# Altium integrated library ON Semi Power Mgt Voltage Detector.IntLib: 40 symbols
Pins are listed as number, name and electrical type; pins without a type are passive.

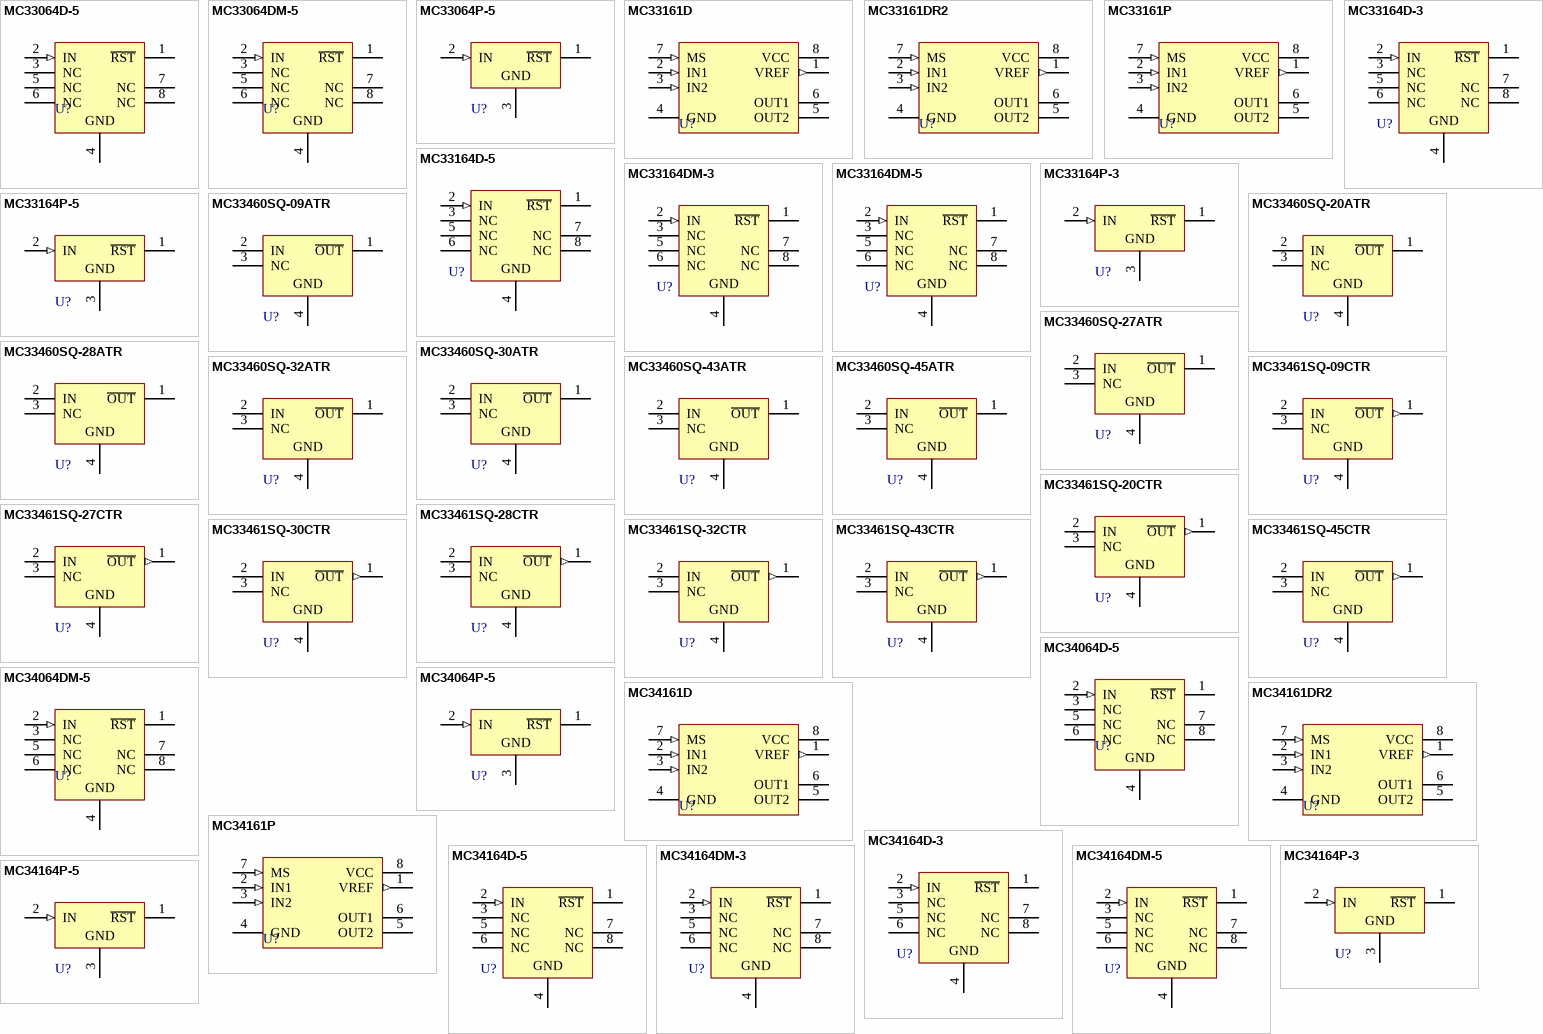
[diagram p0: symbols MC33064D-5 to MC34164P-5]

## MC33064D-5
designator U?
Undervoltage Sensing Circuit; Published: 15-Apr-2002; LatestRevisionDate: 13-Apr-2006; LatestRevisionNote: IPC-7351 Footprint Added.; DatasheetVersion: 1996; PackageVersion: 1998; PackageReference: 751-05; Publisher: Altium Limited; PackageDescription: 8-Pin Small Outline Integrated Circuit 1.27 mm Pitch; Code_JEDEC: MS-012-AA; Code_IPC: SOIC127P600-8; ComponentLink1Description: Manufacturer Link; ComponentLink1URL: http://www.onsemi.com/site/products/taxonomy/0,4438,503,00.html; ComponentLink2Description: Datasheet; ComponentLink2URL: http://www.onsemi.com/pub/Collateral/MC34064-D.PDF
footprint 751-05_N (SOIC, 8-Leads, Body 4.9x3.9mm, Pitch 1.27mm, IPC Medium Density)
footprint 751-05_L (SOIC, 8-Leads, Body 4.9x3.9mm, Pitch 1.27mm, IPC High Density)
footprint 751-05_M (SOIC, 8-Leads, Body 4.9x3.9mm, Pitch 1.27mm, IPC Low Density)
pins: 1 ~{RST} (oc), 2 IN (in), 3 NC, 4 GND (power), 5 NC, 6 NC, 7 NC, 8 NC

## MC33064DM-5
designator U?
Undervoltage Sensing Circuit; Published: 15-Apr-2002; DatasheetVersion: 1996; PackageVersion: Oct-1999; PackageReference: 846A-02; Publisher: Altium Limited; PackageDescription: Shrink Small Outline; 8 Leads; Body Width 3 mm; Pitch 0.65 mm; ComponentLink1Description: Manufacturer Link; ComponentLink1URL: http://www.onsemi.com/site/products/taxonomy/0,4438,503,00.html; ComponentLink2Description: Datasheet; ComponentLink2URL: http://www.onsemi.com/pub/Collateral/MC34064-D.PDF
footprint 846A-02 (Shrink Small Outline; 8 Leads; Body Width 3 mm; Pitch 0.65 mm)
pins: 1 ~{RST} (oc), 2 IN (in), 3 NC, 4 GND (power), 5 NC, 6 NC, 7 NC, 8 NC

## MC33064P-5
designator U?
Undervoltage Sensing Circuit; Published: 15-Apr-2002; DatasheetVersion: 1996; PackageVersion: 1996; PackageReference: 29-04; Publisher: Altium Limited; PackageDescription: TO, Flat Index; 3 In-Line, Axial Leads; Body Dia. 4.8mm; Leads 0.48 x 0.51 mm (max); ComponentLink1Description: Manufacturer Link; ComponentLink1URL: http://www.onsemi.com/site/products/taxonomy/0,4438,503,00.html; ComponentLink2Description: Datasheet; ComponentLink2URL: http://www.onsemi.com/pub/Collateral/MC34064-D.PDF
footprint 29-04 (TO, Flat Index; 3 In-Line, Axial Leads; Body Dia. 4.8mm; Leads 0.48 x 0.51 mm (max))
pins: 1 ~{RST} (oc), 2 IN (in), 3 GND (power)

## MC33161D
designator U?
Universal Voltage Monitor; Published: 15-Apr-2002; LatestRevisionDate: 13-Apr-2006; LatestRevisionNote: IPC-7351 Footprint Added.; DatasheetVersion: Apr-2000; PackageVersion: 1998; PackageReference: 751-05; Publisher: Altium Limited; PackageDescription: 8-Pin Small Outline Integrated Circuit 1.27 mm Pitch; Code_JEDEC: MS-012-AA; Code_IPC: SOIC127P600-8; ComponentLink1Description: Manufacturer Link; ComponentLink1URL: http://www.onsemi.com/site/products/taxonomy/0,4438,503,00.html; ComponentLink2Description: Datasheet; ComponentLink2URL: http://www.onsemi.com/pub/Collateral/MC34161-D.PDF
footprint 751-05_N (SOIC, 8-Leads, Body 4.9x3.9mm, Pitch 1.27mm, IPC Medium Density)
footprint 751-05_L (SOIC, 8-Leads, Body 4.9x3.9mm, Pitch 1.27mm, IPC High Density)
footprint 751-05_M (SOIC, 8-Leads, Body 4.9x3.9mm, Pitch 1.27mm, IPC Low Density)
pins: 1 VREF (out), 2 IN1 (in), 3 IN2 (in), 4 GND (power), 5 OUT2 (oc), 6 OUT1 (oc), 7 MS (in), 8 VCC (power)

## MC33161DR2
designator U?
Universal Voltage Monitor; Published: 15-Apr-2002; LatestRevisionDate: 13-Apr-2006; LatestRevisionNote: IPC-7351 Footprint Added.; DatasheetVersion: Apr-2000; PackageVersion: 1998; PackageReference: 751-05; Publisher: Altium Limited; PackageDescription: 8-Pin Small Outline Integrated Circuit 1.27 mm Pitch; Code_JEDEC: MS-012-AA; Code_IPC: SOIC127P600-8; ComponentLink1Description: Manufacturer Link; ComponentLink1URL: http://www.onsemi.com/site/products/taxonomy/0,4438,503,00.html; ComponentLink2Description: Datasheet; ComponentLink2URL: http://www.onsemi.com/pub/Collateral/MC34161-D.PDF
footprint 751-05_N (SOIC, 8-Leads, Body 4.9x3.9mm, Pitch 1.27mm, IPC Medium Density)
footprint 751-05_L (SOIC, 8-Leads, Body 4.9x3.9mm, Pitch 1.27mm, IPC High Density)
footprint 751-05_M (SOIC, 8-Leads, Body 4.9x3.9mm, Pitch 1.27mm, IPC Low Density)
pins: 1 VREF (out), 2 IN1 (in), 3 IN2 (in), 4 GND (power), 5 OUT2 (oc), 6 OUT1 (oc), 7 MS (in), 8 VCC (power)

## MC33161P
designator U?
Universal Voltage Monitor; Published: 15-Apr-2002; DatasheetVersion: Apr-2000; PackageVersion: 1998; PackageReference: 626-05; Publisher: Altium Limited; PackageDescription: DIP; 8 Leads; Row Spacing 7.62 mm; Pitch 2.54 mm; ComponentLink1Description: Manufacturer Link; ComponentLink1URL: http://www.onsemi.com/site/products/taxonomy/0,4438,503,00.html; ComponentLink2Description: Datasheet; ComponentLink2URL: http://www.onsemi.com/pub/Collateral/MC34161-D.PDF
footprint 626-05 (DIP; 8 Leads; Row Spacing 7.62 mm; Pitch 2.54 mm)
pins: 1 VREF (out), 2 IN1 (in), 3 IN2 (in), 4 GND (power), 5 OUT2 (oc), 6 OUT1 (oc), 7 MS (in), 8 VCC (power)

## MC33164D-3
designator U?
MicroPower UnderVoltage Sensing Circuit; Published: 15-Apr-2002; LatestRevisionDate: 13-Apr-2006; LatestRevisionNote: IPC-7351 Footprint Added.; DatasheetVersion: 1996; PackageVersion: 1998; PackageReference: 751-05; Publisher: Altium Limited; PackageDescription: 8-Pin Small Outline Integrated Circuit 1.27 mm Pitch; Code_JEDEC: MS-012-AA; Code_IPC: SOIC127P600-8; ComponentLink1Description: Manufacturer Link; ComponentLink1URL: http://www.onsemi.com/site/products/taxonomy/0,4438,503,00.html; ComponentLink2Description: Datasheet; ComponentLink2URL: http://www.onsemi.com/pub/Collateral/MC34164-D.PDF
footprint 751-05_N (SOIC, 8-Leads, Body 4.9x3.9mm, Pitch 1.27mm, IPC Medium Density)
footprint 751-05_L (SOIC, 8-Leads, Body 4.9x3.9mm, Pitch 1.27mm, IPC High Density)
footprint 751-05_M (SOIC, 8-Leads, Body 4.9x3.9mm, Pitch 1.27mm, IPC Low Density)
pins: 1 ~{RST} (oc), 2 IN (in), 3 NC, 4 GND (power), 5 NC, 6 NC, 7 NC, 8 NC

## MC33164D-5
designator U?
MicroPower UnderVoltage Sensing Circuit; Published: 15-Apr-2002; LatestRevisionDate: 13-Apr-2006; LatestRevisionNote: IPC-7351 Footprint Added.; DatasheetVersion: 1996; PackageVersion: 1998; PackageReference: 751-05; Publisher: Altium Limited; PackageDescription: 8-Pin Small Outline Integrated Circuit 1.27 mm Pitch; Code_JEDEC: MS-012-AA; Code_IPC: SOIC127P600-8; ComponentLink1Description: Manufacturer Link; ComponentLink1URL: http://www.onsemi.com/site/products/taxonomy/0,4438,503,00.html; ComponentLink2Description: Datasheet; ComponentLink2URL: http://www.onsemi.com/pub/Collateral/MC34164-D.PDF
footprint 751-05_N (SOIC, 8-Leads, Body 4.9x3.9mm, Pitch 1.27mm, IPC Medium Density)
footprint 751-05_L (SOIC, 8-Leads, Body 4.9x3.9mm, Pitch 1.27mm, IPC High Density)
footprint 751-05_M (SOIC, 8-Leads, Body 4.9x3.9mm, Pitch 1.27mm, IPC Low Density)
pins: 1 ~{RST} (oc), 2 IN (in), 3 NC, 4 GND (power), 5 NC, 6 NC, 7 NC, 8 NC

## MC33164DM-3
designator U?
MicroPower UnderVoltage Sensing Circuit; Published: 15-Apr-2002; DatasheetVersion: 1996; PackageVersion: Oct-1999; PackageReference: 846A-02; Publisher: Altium Limited; PackageDescription: Shrink Small Outline; 8 Leads; Body Width 3 mm; Pitch 0.65 mm; ComponentLink1Description: Manufacturer Link; ComponentLink1URL: http://www.onsemi.com/site/products/taxonomy/0,4438,503,00.html; ComponentLink2Description: Datasheet; ComponentLink2URL: http://www.onsemi.com/pub/Collateral/MC34164-D.PDF
footprint 846A-02 (Shrink Small Outline; 8 Leads; Body Width 3 mm; Pitch 0.65 mm)
pins: 1 ~{RST} (oc), 2 IN (in), 3 NC, 4 GND (power), 5 NC, 6 NC, 7 NC, 8 NC

## MC33164DM-5
designator U?
MicroPower UnderVoltage Sensing Circuit; Published: 15-Apr-2002; DatasheetVersion: 1996; PackageVersion: Oct-1999; PackageReference: 846A-02; Publisher: Altium Limited; PackageDescription: Shrink Small Outline; 8 Leads; Body Width 3 mm; Pitch 0.65 mm; ComponentLink1Description: Manufacturer Link; ComponentLink1URL: http://www.onsemi.com/site/products/taxonomy/0,4438,503,00.html; ComponentLink2Description: Datasheet; ComponentLink2URL: http://www.onsemi.com/pub/Collateral/MC34164-D.PDF
footprint 846A-02 (Shrink Small Outline; 8 Leads; Body Width 3 mm; Pitch 0.65 mm)
pins: 1 ~{RST} (oc), 2 IN (in), 3 NC, 4 GND (power), 5 NC, 6 NC, 7 NC, 8 NC

## MC33164P-3
designator U?
MicroPower UnderVoltage Sensing Circuit; Published: 15-Apr-2002; DatasheetVersion: 1996; PackageVersion: 1996; PackageReference: 29-04; Publisher: Altium Limited; PackageDescription: TO, Flat Index; 3 In-Line, Axial Leads; Body Dia. 4.8mm; Leads 0.48 x 0.51 mm (max); ComponentLink1Description: Manufacturer Link; ComponentLink1URL: http://www.onsemi.com/site/products/taxonomy/0,4438,503,00.html; ComponentLink2Description: Datasheet; ComponentLink2URL: http://www.onsemi.com/pub/Collateral/MC34164-D.PDF
footprint 29-04 (TO, Flat Index; 3 In-Line, Axial Leads; Body Dia. 4.8mm; Leads 0.48 x 0.51 mm (max))
pins: 1 ~{RST} (oc), 2 IN (in), 3 GND (power)

## MC33164P-5
designator U?
MicroPower UnderVoltage Sensing Circuit; Published: 15-Apr-2002; DatasheetVersion: 1996; PackageVersion: 1996; PackageReference: 29-04; Publisher: Altium Limited; PackageDescription: TO, Flat Index; 3 In-Line, Axial Leads; Body Dia. 4.8mm; Leads 0.48 x 0.51 mm (max); ComponentLink1Description: Manufacturer Link; ComponentLink1URL: http://www.onsemi.com/site/products/taxonomy/0,4438,503,00.html; ComponentLink2Description: Datasheet; ComponentLink2URL: http://www.onsemi.com/pub/Collateral/MC34164-D.PDF
footprint 29-04 (TO, Flat Index; 3 In-Line, Axial Leads; Body Dia. 4.8mm; Leads 0.48 x 0.51 mm (max))
pins: 1 ~{RST} (oc), 2 IN (in), 3 GND (power)

## MC33460SQ-09ATR
designator U?
Under Voltage Detector; Published: 15-Apr-2002; LatestRevisionDate: 21-Mar-2003; LatestRevisionNote: PCB Footprint 'SOT143/G1' Renamed; DatasheetVersion: Nov-1999; PackageVersion: Nov-1999; PackageReference: 419C-01; Publisher: Altium Limited; PackageDescription: SOT-343; 4 Leads; Body 2.2 x 2.4 mm, inc. leads (LxW max); ComponentLink1Description: Manufacturer Link; ComponentLink1URL: http://www.onsemi.com/site/products/taxonomy/0,4438,503,00.html; ComponentLink2Description: Datasheet; ComponentLink2URL: http://www.onsemi.com/pub/Collateral/MC33460-D.PDF
footprint 419C-01 (SOT-343; 4 Leads; Body 2.2 x 2.4 mm, inc. leads (LxW max))
pins: 1 ~{OUT} (oc), 2 IN (power), 3 NC, 4 GND (power)

## MC33460SQ-20ATR
designator U?
Under Voltage Detector; Published: 15-Apr-2002; LatestRevisionDate: 21-Mar-2003; LatestRevisionNote: PCB Footprint 'SOT143/G1' Renamed; DatasheetVersion: Nov-1999; PackageVersion: Nov-1999; PackageReference: 419C-01; Publisher: Altium Limited; PackageDescription: SOT-343; 4 Leads; Body 2.2 x 2.4 mm, inc. leads (LxW max); ComponentLink1Description: Manufacturer Link; ComponentLink1URL: http://www.onsemi.com/site/products/taxonomy/0,4438,503,00.html; ComponentLink2Description: Datasheet; ComponentLink2URL: http://www.onsemi.com/pub/Collateral/MC33460-D.PDF
footprint 419C-01 (SOT-343; 4 Leads; Body 2.2 x 2.4 mm, inc. leads (LxW max))
pins: 1 ~{OUT} (oc), 2 IN (power), 3 NC, 4 GND (power)

## MC33460SQ-27ATR
designator U?
Under Voltage Detector; Published: 15-Apr-2002; LatestRevisionDate: 21-Mar-2003; LatestRevisionNote: PCB Footprint 'SOT143/G1' Renamed; DatasheetVersion: Nov-1999; PackageVersion: Nov-1999; PackageReference: 419C-01; Publisher: Altium Limited; PackageDescription: SOT-343; 4 Leads; Body 2.2 x 2.4 mm, inc. leads (LxW max); ComponentLink1Description: Manufacturer Link; ComponentLink1URL: http://www.onsemi.com/site/products/taxonomy/0,4438,503,00.html; ComponentLink2Description: Datasheet; ComponentLink2URL: http://www.onsemi.com/pub/Collateral/MC33460-D.PDF
footprint 419C-01 (SOT-343; 4 Leads; Body 2.2 x 2.4 mm, inc. leads (LxW max))
pins: 1 ~{OUT} (oc), 2 IN (power), 3 NC, 4 GND (power)

## MC33460SQ-28ATR
designator U?
Under Voltage Detector; Published: 15-Apr-2002; LatestRevisionDate: 21-Mar-2003; LatestRevisionNote: PCB Footprint 'SOT143/G1' Renamed; DatasheetVersion: Nov-1999; PackageVersion: Nov-1999; PackageReference: 419C-01; Publisher: Altium Limited; PackageDescription: SOT-343; 4 Leads; Body 2.2 x 2.4 mm, inc. leads (LxW max); ComponentLink1Description: Manufacturer Link; ComponentLink1URL: http://www.onsemi.com/site/products/taxonomy/0,4438,503,00.html; ComponentLink2Description: Datasheet; ComponentLink2URL: http://www.onsemi.com/pub/Collateral/MC33460-D.PDF
footprint 419C-01 (SOT-343; 4 Leads; Body 2.2 x 2.4 mm, inc. leads (LxW max))
pins: 1 ~{OUT} (oc), 2 IN (power), 3 NC, 4 GND (power)

## MC33460SQ-30ATR
designator U?
Under Voltage Detector; Published: 15-Apr-2002; LatestRevisionDate: 21-Mar-2003; LatestRevisionNote: PCB Footprint 'SOT143/G1' Renamed; DatasheetVersion: Nov-1999; PackageVersion: Nov-1999; PackageReference: 419C-01; Publisher: Altium Limited; PackageDescription: SOT-343; 4 Leads; Body 2.2 x 2.4 mm, inc. leads (LxW max); ComponentLink1Description: Manufacturer Link; ComponentLink1URL: http://www.onsemi.com/site/products/taxonomy/0,4438,503,00.html; ComponentLink2Description: Datasheet; ComponentLink2URL: http://www.onsemi.com/pub/Collateral/MC33460-D.PDF
footprint 419C-01 (SOT-343; 4 Leads; Body 2.2 x 2.4 mm, inc. leads (LxW max))
pins: 1 ~{OUT} (oc), 2 IN (power), 3 NC, 4 GND (power)

## MC33460SQ-32ATR
designator U?
Under Voltage Detector; Published: 15-Apr-2002; LatestRevisionDate: 21-Mar-2003; LatestRevisionNote: PCB Footprint 'SOT143/G1' Renamed; DatasheetVersion: Nov-1999; PackageVersion: Nov-1999; PackageReference: 419C-01; Publisher: Altium Limited; PackageDescription: SOT-343; 4 Leads; Body 2.2 x 2.4 mm, inc. leads (LxW max); ComponentLink1Description: Manufacturer Link; ComponentLink1URL: http://www.onsemi.com/site/products/taxonomy/0,4438,503,00.html; ComponentLink2Description: Datasheet; ComponentLink2URL: http://www.onsemi.com/pub/Collateral/MC33460-D.PDF
footprint 419C-01 (SOT-343; 4 Leads; Body 2.2 x 2.4 mm, inc. leads (LxW max))
pins: 1 ~{OUT} (oc), 2 IN (power), 3 NC, 4 GND (power)

## MC33460SQ-43ATR
designator U?
Under Voltage Detector; Published: 15-Apr-2002; LatestRevisionDate: 21-Mar-2003; LatestRevisionNote: PCB Footprint 'SOT143/G1' Renamed; DatasheetVersion: Nov-1999; PackageVersion: Nov-1999; PackageReference: 419C-01; Publisher: Altium Limited; PackageDescription: SOT-343; 4 Leads; Body 2.2 x 2.4 mm, inc. leads (LxW max); ComponentLink1Description: Manufacturer Link; ComponentLink1URL: http://www.onsemi.com/site/products/taxonomy/0,4438,503,00.html; ComponentLink2Description: Datasheet; ComponentLink2URL: http://www.onsemi.com/pub/Collateral/MC33460-D.PDF
footprint 419C-01 (SOT-343; 4 Leads; Body 2.2 x 2.4 mm, inc. leads (LxW max))
pins: 1 ~{OUT} (oc), 2 IN (power), 3 NC, 4 GND (power)

## MC33460SQ-45ATR
designator U?
Under Voltage Detector; Published: 15-Apr-2002; LatestRevisionDate: 21-Mar-2003; LatestRevisionNote: PCB Footprint 'SOT143/G1' Renamed; DatasheetVersion: Nov-1999; PackageVersion: Nov-1999; PackageReference: 419C-01; Publisher: Altium Limited; PackageDescription: SOT-343; 4 Leads; Body 2.2 x 2.4 mm, inc. leads (LxW max); ComponentLink1Description: Manufacturer Link; ComponentLink1URL: http://www.onsemi.com/site/products/taxonomy/0,4438,503,00.html; ComponentLink2Description: Datasheet; ComponentLink2URL: http://www.onsemi.com/pub/Collateral/MC33460-D.PDF
footprint 419C-01 (SOT-343; 4 Leads; Body 2.2 x 2.4 mm, inc. leads (LxW max))
pins: 1 ~{OUT} (oc), 2 IN (power), 3 NC, 4 GND (power)

## MC33461SQ-09CTR
designator U?
Under Voltage Detector; Published: 15-Apr-2002; LatestRevisionDate: 21-Mar-2003; LatestRevisionNote: PCB Footprint 'SOT143/G1' Renamed; DatasheetVersion: Nov-1999; PackageVersion: Nov-1999; PackageReference: 419C-01; Publisher: Altium Limited; PackageDescription: SOT-343; 4 Leads; Body 2.2 x 2.4 mm, inc. leads (LxW max); ComponentLink1Description: Manufacturer Link; ComponentLink1URL: http://www.onsemi.com/site/products/taxonomy/0,4438,503,00.html; ComponentLink2Description: Datasheet; ComponentLink2URL: http://www.onsemi.com/pub/Collateral/MC33460-D.PDF
footprint 419C-01 (SOT-343; 4 Leads; Body 2.2 x 2.4 mm, inc. leads (LxW max))
pins: 1 ~{OUT} (out), 2 IN (power), 3 NC, 4 GND (power)

## MC33461SQ-20CTR
designator U?
Under Voltage Detector; Published: 15-Apr-2002; LatestRevisionDate: 21-Mar-2003; LatestRevisionNote: PCB Footprint 'SOT143/G1' Renamed; DatasheetVersion: Nov-1999; PackageVersion: Nov-1999; PackageReference: 419C-01; Publisher: Altium Limited; PackageDescription: SOT-343; 4 Leads; Body 2.2 x 2.4 mm, inc. leads (LxW max); ComponentLink1Description: Manufacturer Link; ComponentLink1URL: http://www.onsemi.com/site/products/taxonomy/0,4438,503,00.html; ComponentLink2Description: Datasheet; ComponentLink2URL: http://www.onsemi.com/pub/Collateral/MC33460-D.PDF
footprint 419C-01 (SOT-343; 4 Leads; Body 2.2 x 2.4 mm, inc. leads (LxW max))
pins: 1 ~{OUT} (out), 2 IN (power), 3 NC, 4 GND (power)

## MC33461SQ-27CTR
designator U?
Under Voltage Detector; Published: 15-Apr-2002; LatestRevisionDate: 21-Mar-2003; LatestRevisionNote: PCB Footprint 'SOT143/G1' Renamed; DatasheetVersion: Nov-1999; PackageVersion: Nov-1999; PackageReference: 419C-01; Publisher: Altium Limited; PackageDescription: SOT-343; 4 Leads; Body 2.2 x 2.4 mm, inc. leads (LxW max); ComponentLink1Description: Manufacturer Link; ComponentLink1URL: http://www.onsemi.com/site/products/taxonomy/0,4438,503,00.html; ComponentLink2Description: Datasheet; ComponentLink2URL: http://www.onsemi.com/pub/Collateral/MC33460-D.PDF
footprint 419C-01 (SOT-343; 4 Leads; Body 2.2 x 2.4 mm, inc. leads (LxW max))
pins: 1 ~{OUT} (out), 2 IN (power), 3 NC, 4 GND (power)

## MC33461SQ-28CTR
designator U?
Under Voltage Detector; Published: 15-Apr-2002; LatestRevisionDate: 21-Mar-2003; LatestRevisionNote: PCB Footprint 'SOT143/G1' Renamed; DatasheetVersion: Nov-1999; PackageVersion: Nov-1999; PackageReference: 419C-01; Publisher: Altium Limited; PackageDescription: SOT-343; 4 Leads; Body 2.2 x 2.4 mm, inc. leads (LxW max); ComponentLink1Description: Manufacturer Link; ComponentLink1URL: http://www.onsemi.com/site/products/taxonomy/0,4438,503,00.html; ComponentLink2Description: Datasheet; ComponentLink2URL: http://www.onsemi.com/pub/Collateral/MC33460-D.PDF
footprint 419C-01 (SOT-343; 4 Leads; Body 2.2 x 2.4 mm, inc. leads (LxW max))
pins: 1 ~{OUT} (out), 2 IN (power), 3 NC, 4 GND (power)

## MC33461SQ-30CTR
designator U?
Under Voltage Detector; Published: 15-Apr-2002; LatestRevisionDate: 21-Mar-2003; LatestRevisionNote: PCB Footprint 'SOT143/G1' Renamed; DatasheetVersion: Nov-1999; PackageVersion: Nov-1999; PackageReference: 419C-01; Publisher: Altium Limited; PackageDescription: SOT-343; 4 Leads; Body 2.2 x 2.4 mm, inc. leads (LxW max); ComponentLink1Description: Manufacturer Link; ComponentLink1URL: http://www.onsemi.com/site/products/taxonomy/0,4438,503,00.html; ComponentLink2Description: Datasheet; ComponentLink2URL: http://www.onsemi.com/pub/Collateral/MC33460-D.PDF
footprint 419C-01 (SOT-343; 4 Leads; Body 2.2 x 2.4 mm, inc. leads (LxW max))
pins: 1 ~{OUT} (out), 2 IN (power), 3 NC, 4 GND (power)

## MC33461SQ-32CTR
designator U?
Under Voltage Detector; Published: 15-Apr-2002; LatestRevisionDate: 21-Mar-2003; LatestRevisionNote: PCB Footprint 'SOT143/G1' Renamed; DatasheetVersion: Nov-1999; PackageVersion: Nov-1999; PackageReference: 419C-01; Publisher: Altium Limited; PackageDescription: SOT-343; 4 Leads; Body 2.2 x 2.4 mm, inc. leads (LxW max); ComponentLink1Description: Manufacturer Link; ComponentLink1URL: http://www.onsemi.com/site/products/taxonomy/0,4438,503,00.html; ComponentLink2Description: Datasheet; ComponentLink2URL: http://www.onsemi.com/pub/Collateral/MC33460-D.PDF
footprint 419C-01 (SOT-343; 4 Leads; Body 2.2 x 2.4 mm, inc. leads (LxW max))
pins: 1 ~{OUT} (out), 2 IN (power), 3 NC, 4 GND (power)

## MC33461SQ-43CTR
designator U?
Under Voltage Detector; Published: 15-Apr-2002; LatestRevisionDate: 21-Mar-2003; LatestRevisionNote: PCB Footprint 'SOT143/G1' Renamed; DatasheetVersion: Nov-1999; PackageVersion: Nov-1999; PackageReference: 419C-01; Publisher: Altium Limited; PackageDescription: SOT-343; 4 Leads; Body 2.2 x 2.4 mm, inc. leads (LxW max); ComponentLink1Description: Manufacturer Link; ComponentLink1URL: http://www.onsemi.com/site/products/taxonomy/0,4438,503,00.html; ComponentLink2Description: Datasheet; ComponentLink2URL: http://www.onsemi.com/pub/Collateral/MC33460-D.PDF
footprint 419C-01 (SOT-343; 4 Leads; Body 2.2 x 2.4 mm, inc. leads (LxW max))
pins: 1 ~{OUT} (out), 2 IN (power), 3 NC, 4 GND (power)

## MC33461SQ-45CTR
designator U?
Under Voltage Detector; Published: 15-Apr-2002; LatestRevisionDate: 21-Mar-2003; LatestRevisionNote: PCB Footprint 'SOT143/G1' Renamed; DatasheetVersion: Nov-1999; PackageVersion: Nov-1999; PackageReference: 419C-01; Publisher: Altium Limited; PackageDescription: SOT-343; 4 Leads; Body 2.2 x 2.4 mm, inc. leads (LxW max); ComponentLink1Description: Manufacturer Link; ComponentLink1URL: http://www.onsemi.com/site/products/taxonomy/0,4438,503,00.html; ComponentLink2Description: Datasheet; ComponentLink2URL: http://www.onsemi.com/pub/Collateral/MC33460-D.PDF
footprint 419C-01 (SOT-343; 4 Leads; Body 2.2 x 2.4 mm, inc. leads (LxW max))
pins: 1 ~{OUT} (out), 2 IN (power), 3 NC, 4 GND (power)

## MC34064D-5
designator U?
Undervoltage Sensing Circuit; Published: 15-Apr-2002; LatestRevisionDate: 13-Apr-2006; LatestRevisionNote: IPC-7351 Footprint Added.; DatasheetVersion: 1996; PackageVersion: 1998; PackageReference: 751-05; Publisher: Altium Limited; PackageDescription: 8-Pin Small Outline Integrated Circuit 1.27 mm Pitch; Code_JEDEC: MS-012-AA; Code_IPC: SOIC127P600-8; ComponentLink1Description: Manufacturer Link; ComponentLink1URL: http://www.onsemi.com/site/products/taxonomy/0,4438,503,00.html; ComponentLink2Description: Datasheet; ComponentLink2URL: http://www.onsemi.com/pub/Collateral/MC34064-D.PDF
footprint 751-05_N (SOIC, 8-Leads, Body 4.9x3.9mm, Pitch 1.27mm, IPC Medium Density)
footprint 751-05_L (SOIC, 8-Leads, Body 4.9x3.9mm, Pitch 1.27mm, IPC High Density)
footprint 751-05_M (SOIC, 8-Leads, Body 4.9x3.9mm, Pitch 1.27mm, IPC Low Density)
pins: 1 ~{RST} (oc), 2 IN (in), 3 NC, 4 GND (power), 5 NC, 6 NC, 7 NC, 8 NC

## MC34064DM-5
designator U?
Undervoltage Sensing Circuit; Published: 15-Apr-2002; DatasheetVersion: 1996; PackageVersion: Oct-1999; PackageReference: 846A-02; Publisher: Altium Limited; PackageDescription: Shrink Small Outline; 8 Leads; Body Width 3 mm; Pitch 0.65 mm; ComponentLink1Description: Manufacturer Link; ComponentLink1URL: http://www.onsemi.com/site/products/taxonomy/0,4438,503,00.html; ComponentLink2Description: Datasheet; ComponentLink2URL: http://www.onsemi.com/pub/Collateral/MC34064-D.PDF
footprint 846A-02 (Shrink Small Outline; 8 Leads; Body Width 3 mm; Pitch 0.65 mm)
pins: 1 ~{RST} (oc), 2 IN (in), 3 NC, 4 GND (power), 5 NC, 6 NC, 7 NC, 8 NC

## MC34064P-5
designator U?
Undervoltage Sensing Circuit; Published: 15-Apr-2002; DatasheetVersion: 1996; PackageVersion: 1996; PackageReference: 29-04; Publisher: Altium Limited; PackageDescription: TO, Flat Index; 3 In-Line, Axial Leads; Body Dia. 4.8mm; Leads 0.48 x 0.51 mm (max); ComponentLink1Description: Manufacturer Link; ComponentLink1URL: http://www.onsemi.com/site/products/taxonomy/0,4438,503,00.html; ComponentLink2Description: Datasheet; ComponentLink2URL: http://www.onsemi.com/pub/Collateral/MC34064-D.PDF
footprint 29-04 (TO, Flat Index; 3 In-Line, Axial Leads; Body Dia. 4.8mm; Leads 0.48 x 0.51 mm (max))
pins: 1 ~{RST} (oc), 2 IN (in), 3 GND (power)

## MC34161D
designator U?
Universal Voltage Monitor; Published: 15-Apr-2002; LatestRevisionDate: 13-Apr-2006; LatestRevisionNote: IPC-7351 Footprint Added.; DatasheetVersion: Apr-2000; PackageVersion: 1998; PackageReference: 751-05; Publisher: Altium Limited; PackageDescription: 8-Pin Small Outline Integrated Circuit 1.27 mm Pitch; Code_JEDEC: MS-012-AA; Code_IPC: SOIC127P600-8; ComponentLink1Description: Manufacturer Link; ComponentLink1URL: http://www.onsemi.com/site/products/taxonomy/0,4438,503,00.html; ComponentLink2Description: Datasheet; ComponentLink2URL: http://www.onsemi.com/pub/Collateral/MC34161-D.PDF
footprint 751-05_N (SOIC, 8-Leads, Body 4.9x3.9mm, Pitch 1.27mm, IPC Medium Density)
footprint 751-05_L (SOIC, 8-Leads, Body 4.9x3.9mm, Pitch 1.27mm, IPC High Density)
footprint 751-05_M (SOIC, 8-Leads, Body 4.9x3.9mm, Pitch 1.27mm, IPC Low Density)
pins: 1 VREF (out), 2 IN1 (in), 3 IN2 (in), 4 GND (power), 5 OUT2 (oc), 6 OUT1 (oc), 7 MS (in), 8 VCC (power)

## MC34161DR2
designator U?
Universal Voltage Monitor; Published: 15-Apr-2002; LatestRevisionDate: 13-Apr-2006; LatestRevisionNote: IPC-7351 Footprint Added.; DatasheetVersion: Apr-2000; PackageVersion: 1998; PackageReference: 751-05; Publisher: Altium Limited; PackageDescription: 8-Pin Small Outline Integrated Circuit 1.27 mm Pitch; Code_JEDEC: MS-012-AA; Code_IPC: SOIC127P600-8; ComponentLink1Description: Manufacturer Link; ComponentLink1URL: http://www.onsemi.com/site/products/taxonomy/0,4438,503,00.html; ComponentLink2Description: Datasheet; ComponentLink2URL: http://www.onsemi.com/pub/Collateral/MC34161-D.PDF
footprint 751-05_N (SOIC, 8-Leads, Body 4.9x3.9mm, Pitch 1.27mm, IPC Medium Density)
footprint 751-05_L (SOIC, 8-Leads, Body 4.9x3.9mm, Pitch 1.27mm, IPC High Density)
footprint 751-05_M (SOIC, 8-Leads, Body 4.9x3.9mm, Pitch 1.27mm, IPC Low Density)
pins: 1 VREF (out), 2 IN1 (in), 3 IN2 (in), 4 GND (power), 5 OUT2 (oc), 6 OUT1 (oc), 7 MS (in), 8 VCC (power)

## MC34161P
designator U?
Universal Voltage Monitor; Published: 15-Apr-2002; DatasheetVersion: Apr-2000; PackageVersion: 1998; PackageReference: 626-05; Publisher: Altium Limited; PackageDescription: DIP; 8 Leads; Row Spacing 7.62 mm; Pitch 2.54 mm; ComponentLink1Description: Manufacturer Link; ComponentLink1URL: http://www.onsemi.com/site/products/taxonomy/0,4438,503,00.html; ComponentLink2Description: Datasheet; ComponentLink2URL: http://www.onsemi.com/pub/Collateral/MC34161-D.PDF
footprint 626-05 (DIP; 8 Leads; Row Spacing 7.62 mm; Pitch 2.54 mm)
pins: 1 VREF (out), 2 IN1 (in), 3 IN2 (in), 4 GND (power), 5 OUT2 (oc), 6 OUT1 (oc), 7 MS (in), 8 VCC (power)

## MC34164D-3
designator U?
MicroPower UnderVoltage Sensing Circuit; Published: 15-Apr-2002; LatestRevisionDate: 13-Apr-2006; LatestRevisionNote: IPC-7351 Footprint Added.; DatasheetVersion: 1996; PackageVersion: 1998; PackageReference: 751-05; Publisher: Altium Limited; PackageDescription: 8-Pin Small Outline Integrated Circuit 1.27 mm Pitch; Code_JEDEC: MS-012-AA; Code_IPC: SOIC127P600-8; ComponentLink1Description: Manufacturer Link; ComponentLink1URL: http://www.onsemi.com/site/products/taxonomy/0,4438,503,00.html; ComponentLink2Description: Datasheet; ComponentLink2URL: http://www.onsemi.com/pub/Collateral/MC34164-D.PDF
footprint 751-05_N (SOIC, 8-Leads, Body 4.9x3.9mm, Pitch 1.27mm, IPC Medium Density)
footprint 751-05_L (SOIC, 8-Leads, Body 4.9x3.9mm, Pitch 1.27mm, IPC High Density)
footprint 751-05_M (SOIC, 8-Leads, Body 4.9x3.9mm, Pitch 1.27mm, IPC Low Density)
pins: 1 ~{RST} (oc), 2 IN (in), 3 NC, 4 GND (power), 5 NC, 6 NC, 7 NC, 8 NC

## MC34164D-5
designator U?
MicroPower UnderVoltage Sensing Circuit; Published: 15-Apr-2002; LatestRevisionDate: 13-Apr-2006; LatestRevisionNote: IPC-7351 Footprint Added.; DatasheetVersion: 1996; PackageVersion: 1998; PackageReference: 751-05; Publisher: Altium Limited; PackageDescription: 8-Pin Small Outline Integrated Circuit 1.27 mm Pitch; Code_JEDEC: MS-012-AA; Code_IPC: SOIC127P600-8; ComponentLink1Description: Manufacturer Link; ComponentLink1URL: http://www.onsemi.com/site/products/taxonomy/0,4438,503,00.html; ComponentLink2Description: Datasheet; ComponentLink2URL: http://www.onsemi.com/pub/Collateral/MC34164-D.PDF
footprint 751-05_N (SOIC, 8-Leads, Body 4.9x3.9mm, Pitch 1.27mm, IPC Medium Density)
footprint 751-05_L (SOIC, 8-Leads, Body 4.9x3.9mm, Pitch 1.27mm, IPC High Density)
footprint 751-05_M (SOIC, 8-Leads, Body 4.9x3.9mm, Pitch 1.27mm, IPC Low Density)
pins: 1 ~{RST} (oc), 2 IN (in), 3 NC, 4 GND (power), 5 NC, 6 NC, 7 NC, 8 NC

## MC34164DM-3
designator U?
MicroPower UnderVoltage Sensing Circuit; Published: 15-Apr-2002; DatasheetVersion: 1996; PackageVersion: Oct-1999; PackageReference: 846A-02; Publisher: Altium Limited; PackageDescription: Shrink Small Outline; 8 Leads; Body Width 3 mm; Pitch 0.65 mm; ComponentLink1Description: Manufacturer Link; ComponentLink1URL: http://www.onsemi.com/site/products/taxonomy/0,4438,503,00.html; ComponentLink2Description: Datasheet; ComponentLink2URL: http://www.onsemi.com/pub/Collateral/MC34164-D.PDF
footprint 846A-02 (Shrink Small Outline; 8 Leads; Body Width 3 mm; Pitch 0.65 mm)
pins: 1 ~{RST} (oc), 2 IN (in), 3 NC, 4 GND (power), 5 NC, 6 NC, 7 NC, 8 NC

## MC34164DM-5
designator U?
MicroPower UnderVoltage Sensing Circuit; Published: 15-Apr-2002; DatasheetVersion: 1996; PackageVersion: Oct-1999; PackageReference: 846A-02; Publisher: Altium Limited; PackageDescription: Shrink Small Outline; 8 Leads; Body Width 3 mm; Pitch 0.65 mm; ComponentLink1Description: Manufacturer Link; ComponentLink1URL: http://www.onsemi.com/site/products/taxonomy/0,4438,503,00.html; ComponentLink2Description: Datasheet; ComponentLink2URL: http://www.onsemi.com/pub/Collateral/MC34164-D.PDF
footprint 846A-02 (Shrink Small Outline; 8 Leads; Body Width 3 mm; Pitch 0.65 mm)
pins: 1 ~{RST} (oc), 2 IN (in), 3 NC, 4 GND (power), 5 NC, 6 NC, 7 NC, 8 NC

## MC34164P-3
designator U?
MicroPower UnderVoltage Sensing Circuit; Published: 15-Apr-2002; DatasheetVersion: 1996; PackageVersion: 1996; PackageReference: 29-04; Publisher: Altium Limited; PackageDescription: TO, Flat Index; 3 In-Line, Axial Leads; Body Dia. 4.8mm; Leads 0.48 x 0.51 mm (max); ComponentLink1Description: Manufacturer Link; ComponentLink1URL: http://www.onsemi.com/site/products/taxonomy/0,4438,503,00.html; ComponentLink2Description: Datasheet; ComponentLink2URL: http://www.onsemi.com/pub/Collateral/MC34164-D.PDF
footprint 29-04 (TO, Flat Index; 3 In-Line, Axial Leads; Body Dia. 4.8mm; Leads 0.48 x 0.51 mm (max))
pins: 1 ~{RST} (oc), 2 IN (in), 3 GND (power)

## MC34164P-5
designator U?
MicroPower UnderVoltage Sensing Circuit; Published: 15-Apr-2002; DatasheetVersion: 1996; PackageVersion: 1996; PackageReference: 29-04; Publisher: Altium Limited; PackageDescription: TO, Flat Index; 3 In-Line, Axial Leads; Body Dia. 4.8mm; Leads 0.48 x 0.51 mm (max); ComponentLink1Description: Manufacturer Link; ComponentLink1URL: http://www.onsemi.com/site/products/taxonomy/0,4438,503,00.html; ComponentLink2Description: Datasheet; ComponentLink2URL: http://www.onsemi.com/pub/Collateral/MC34164-D.PDF
footprint 29-04 (TO, Flat Index; 3 In-Line, Axial Leads; Body Dia. 4.8mm; Leads 0.48 x 0.51 mm (max))
pins: 1 ~{RST} (oc), 2 IN (in), 3 GND (power)